# Altium footprint library USB MINI B.PcbLib: 1 footprints
Each footprint in its own frame and in the unit in brackets; x right, y up, seen from the top. Pads: shape width x height; smd on the part's side, far side on the other; paste and mask are expansions set on the pad; w line width, h text height; cw(c..) or ccw(c..) is an arc to the next point about the centre after c.
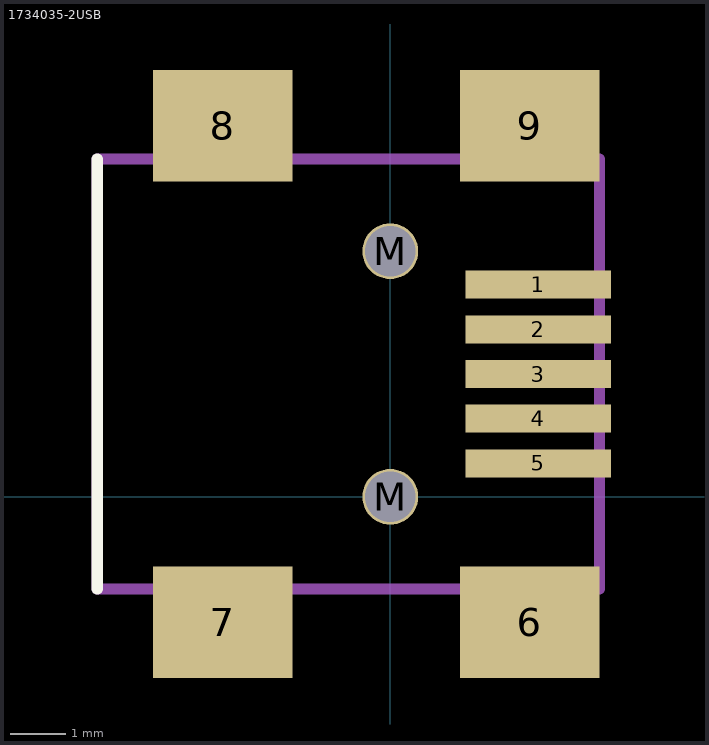
[diagram p0: the footprint, top view; thin cyan lines are the x and y axes]

## 1734035-2USB [mm]
pads (11):
  rect 2.6x0.5 smd: 1(2.65,3.8) 2(2.65,3) 3(2.65,2.2) 4(2.65,1.4) 5(2.65,0.6)
  rect 2.5x2 smd: 6(2.5,-2.25) 7(-3,-2.25) 8(-3,6.65) 9(2.5,6.65)
  round 1 hole 0.9: M(0,0) M(0,4.4)
Top Overlay:
  lines w0.2: -5.25,-1.65 -5.25,6.05
Mechanical 13:
  lines w0.2: -5.25,-1.65 3.75,-1.65 3.75,6.05 -5.25,6.05 -5.25,-1.65
3D body "1734035-4.STEP": height 4.12, standoff -0.97, extent -5.9,-2.725 3.3,7.175